# Altium footprint library ESC PCB Lib.PcbLib: 23 footprints (part 1 of 2)
Each footprint in its own frame and in the unit in brackets; x right, y up, seen from the top. Pads: shape width x height; smd on the part's side, far side on the other; paste and mask are expansions set on the pad; w line width, h text height; cw(c..) or ccw(c..) is an arc to the next point about the centre after c.
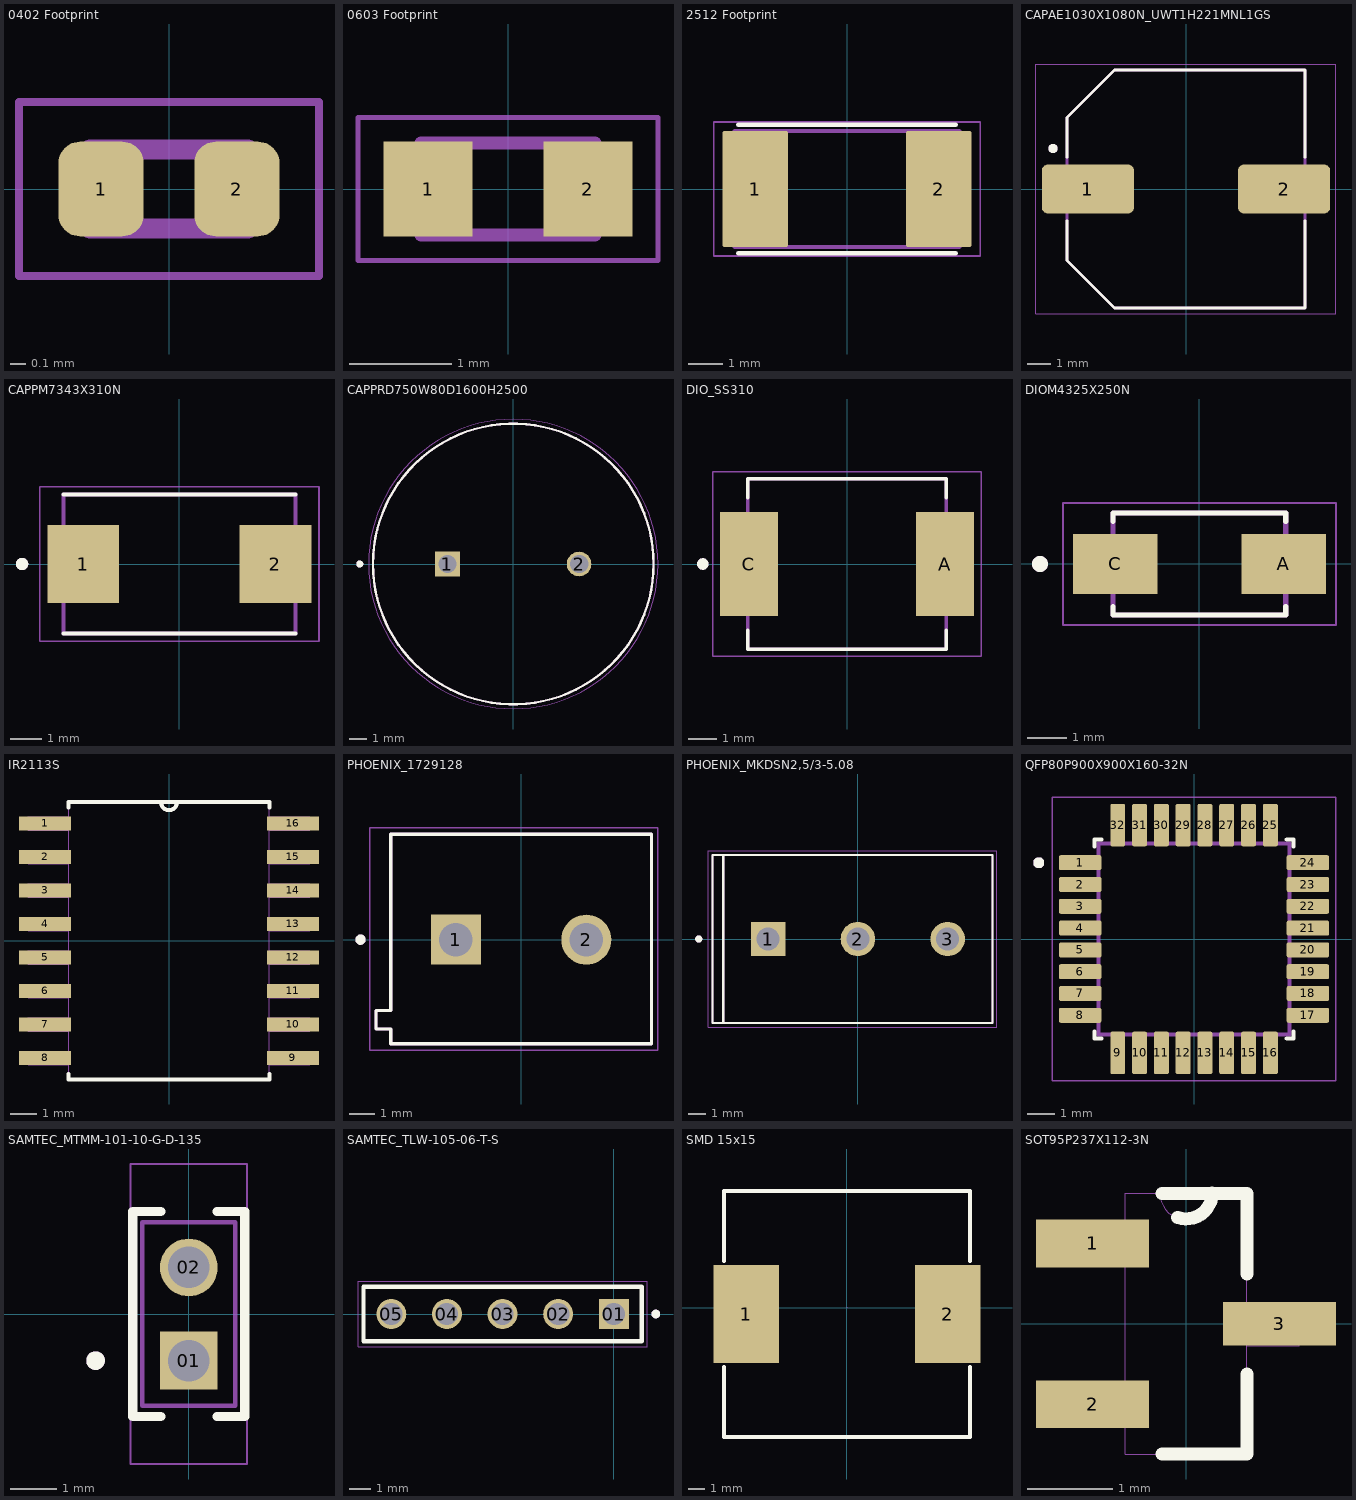
[diagram p0: the footprints below, top view; thin cyan lines are the x and y axes]

## 0402 Footprint [mm]
pads (2):
  rrect50% 0.54x0.6 smd: 1(-0.43,0) 2(0.43,0)
Mechanical 13:
  lines w0.127: -0.5,-0.25 0.5,-0.25 0.5,0.25 -0.5,0.25 -0.5,-0.25
Mechanical 15:
  lines w0.05: -0.95,-0.55 0.95,-0.55 0.95,0.55 -0.95,0.55 -0.95,-0.55

## 0603 Footprint [mm]
pads (2):
  rect 0.87x0.93 smd: 1(-0.78,0) 2(0.78,0)
Mechanical 13:
  lines w0.127: -0.85,-0.45 0.85,-0.45 0.85,0.45 -0.85,0.45 -0.85,-0.45
Mechanical 15:
  lines w0.05: -1.465,-0.7 1.465,-0.7 1.465,0.7 -1.465,0.7 -1.465,-0.7

## 2512 Footprint [mm]
pads (2):
  rrect7% 1.9x3.37 smd: 1(-2.66,0) 2(2.66,0)
Top Overlay:
  lines w0.127: -3.15,-1.865 3.15,-1.865 ; -3.15,1.865 3.15,1.865
Mechanical 13:
  lines w0.127: -3.25,-1.68 -3.25,1.68 3.25,1.68 3.25,-1.68 -3.25,-1.68
Mechanical 15:
  lines w0.05: -3.86,-1.94 -3.86,1.94 3.86,1.94 3.86,-1.94 -3.86,-1.94

## CAPAE1030X1080N_UWT1H221MNL1GS [mm]
pads (2):
  rrect25% 3.99x2.12 smd: 1(-4.24,0) 2(4.24,0)
Top Overlay:
  circle w0.2: c-5.75,1.75 r0.1
  lines w0.127: -5.15,-1.374 -5.15,-3.09 -3.09,-5.15 5.15,-5.15 5.15,-1.374 ; -5.15,1.374 -5.15,3.09 -3.09,5.15 5.15,5.15 5.15,1.374
Mechanical 13:
  circle w0.2: c-5.75,1.75 r0.1
  lines w0.127: -5.15,-3.09 -5.15,3.09 -3.09,5.15 5.15,5.15 5.15,-5.15 -3.09,-5.15 -5.15,-3.09
Mechanical 15:
  lines w0.05: -6.485,-5.4 -6.485,5.4 6.485,5.4 6.485,-5.4 -6.485,-5.4

## CAPPM7343X310N [mm]
pads (2):
  rect 2.31x2.52 smd: 1(-3.1,0) 2(3.1,0)
Top Overlay:
  circle w0.2: c-5.08,0 r0.1
  lines w0.127: -3.75,-2.25 3.75,-2.25 ; -3.75,2.25 3.75,2.25
Mechanical 13:
  circle w0.2: c-5.08,0 r0.1
  lines w0.127: -3.75,-2.25 -3.75,2.25 3.75,2.25 3.75,-2.25 -3.75,-2.25
Mechanical 15:
  lines w0.05: -4.505,-2.5 -4.505,2.5 4.505,2.5 4.505,-2.5 -4.505,-2.5

## CAPPRD750W80D1600H2500 [mm]
pads (2):
  rect 1.4x1.4 hole 1.05: 1(-3.75,0)
  round 1.4 hole 1.05: 2(3.75,0)
Top Overlay:
  circle w0.2: c-8.75,0 r0.1
  circle w0.127: c0,0 r8
Mechanical 13:
  circle w0.2: c-8.75,0 r0.1
  circle w0.127: c0,0 r8
Mechanical 15:
  circle w0.05: c0,0 r8.25
3D body "step_temp.STEP": height 25, standoff -17, extent -8,-7.997 8,7.997

## DIO_SS310 [mm]
height 2.65
pads (2):
  rect 2x3.6 smd: A(3.4,0) C(-3.4,0)
Top Overlay:
  circle w0.2: c-5,0 r0.1
  lines w0.127: -3.437,-2.3 -3.437,-2.95 3.437,-2.95 3.437,-2.3 ; -3.437,2.3 -3.437,2.95 3.437,2.95 3.437,2.3
Mechanical 13:
  circle w0.2: c-5,0 r0.1
  lines w0.127: -3.437,-2.95 3.437,-2.95 3.437,2.95 -3.437,2.95 -3.437,-2.95
Mechanical 15:
  lines w0.05: -4.65,-3.2 4.65,-3.2 4.65,3.2 -4.65,3.2 -4.65,-3.2
3D body "step_temp.STEP": height 2.65, standoff 0, extent -3.975,-2.95 3.975,2.95

## DIOM4325X250N [mm]
pads (2):
  rect 2.12x1.5 smd: A(2.115,0) C(-2.115,0)
Top Overlay:
  circle w0.2: c-4,0 r0.1
  lines w0.127: -2.165,-1.07 -2.165,-1.28 2.165,-1.28 2.165,-1.07 ; -2.165,1.07 -2.165,1.28 2.165,1.28 2.165,1.07
Mechanical 13:
  circle w0.2: c-4,0 r0.1
  lines w0.127: -2.165,-1.28 -2.165,1.28 2.165,1.28 2.165,-1.28 -2.165,-1.28
Mechanical 15:
  lines w0.05: -3.425,-1.53 -3.425,1.53 3.425,1.53 3.425,-1.53 -3.425,-1.53

## IR2113S [mil]
pads (16):
  rect 78x21 smd: 1(-185,175) 2(-185,125) 3(-185,75) 4(-185,25) 5(-185,-25) 6(-185,-75) 7(-185,-125) 8(-185,-175) 9(185,-175) 10(185,-125) 11(185,-75) 12(185,-25) 13(185,25) 14(185,75) 15(185,125) 16(185,175)
Top Overlay:
  lines w6: -150,-199 -150,-207 150,-207 150,-199 ; -150,199 -150,207 -12,207 ; 150,199 150,207 12,207 ; -12,207 ccw(c0,207) 12,207 ; -12,207 12,207
Mechanical 13:
  lines w0: -12,207 ccw(c0,207) 12,207 ; -12,207 -150,207 -150,-207 150,-207 150,207 12,207 ; -12,207 12,207 ; -210,-185 -150,-185 -150,-165 -210,-165 -210,-185 ; -210,-135 -150,-135 -150,-115 -210,-115 -210,-135 ; -210,-85 -150,-85 -150,-65 -210,-65 -210,-85 ; -210,-35 -150,-35 -150,-15 -210,-15 -210,-35 ; -210,15 -150,15 -150,35 -210,35 -210,15 ; -210,65 -150,65 -150,85 -210,85 -210,65 ; -210,115 -150,115 -150,135 -210,135 -210,115 ; -210,165 -150,165 -150,185 -210,185 -210,165 ; 150,-185 210,-185 210,-165 150,-165 150,-185 ; 150,-135 210,-135 210,-115 150,-115 150,-135 ; 150,-85 210,-85 210,-65 150,-65 150,-85 ; 150,-35 210,-35 210,-15 150,-15 150,-35 ; 150,15 210,15 210,35 150,35 150,15 ; 150,65 210,65 210,85 150,85 150,65 ; 150,115 210,115 210,135 150,135 150,115 ; 150,165 210,165 210,185 150,185 150,165

## PHOENIX_1729128 [mm]
height 10.15
pads (2):
  rect 1.95x1.95 / inner round 1.95 / far side rect 1.95x1.95 hole 1.3: 1(-2.54,0)
  round 1.95 hole 1.3: 2(2.54,0)
Top Overlay:
  circle w0.2: c-6.25,0 r0.1
  lines w0.127: -5.65,-3.477 -5.08,-3.477 -5.08,-4.05 5.08,-4.05 5.08,4.1 -5.08,4.1 -5.08,-2.763 -5.65,-2.763 -5.65,-3.477
Mechanical 13:
  circle w0.2: c-6.25,0 r0.1
  lines w0.127: -5.65,-3.477 -5.08,-3.477 -5.08,-4.05 5.08,-4.05 5.08,4.1 -5.08,4.1 -5.08,-2.763 -5.65,-2.763 -5.65,-3.477
Mechanical 15:
  lines w0.05: -5.9,-4.3 -5.9,4.35 5.33,4.35 5.33,-4.3 -5.9,-4.3

## PHOENIX_MKDSN2,5/3-5.08 [mm]
height 15
pads (3):
  rect 1.95x1.95 / inner round 1.95 / far side rect 1.95x1.95 hole 1.3: 1(-5.08,0)
  round 1.95 hole 1.3: 2(0,0) 3(5.08,0)
Top Overlay:
  circle w0.2: c-9,0 r0.1
  lines w0.127: -7.62,-4.75 -7.62,4.75 ; -7.62,-4.75 7.62,-4.75 7.62,4.75 -7.62,4.75 ; -7.62,-4.75 -8.22,-4.75 -8.22,4.75 -7.62,4.75
Mechanical 13:
  circle w0.2: c-9,0 r0.1
  lines w0.127: -7.62,-4.75 7.62,-4.75 7.62,4.75 -7.62,4.75 ; -7.62,-4.75 -7.62,4.75 ; -7.62,-4.75 -8.22,-4.75 -8.22,4.75 -7.62,4.75
Mechanical 15:
  lines w0.05: -8.47,-5 7.87,-5 7.87,5 -8.47,5 -8.47,-5
3D body "step_temp.STEP": height 15.15, standoff -3.7, extent -8.19,-4.75 7.62,4.75

## QFP80P900X900X160-32N [mm]
pads (32):
  rrect25% 1.56x0.55 smd: 1(-4.18,2.8) 2(-4.18,2) 3(-4.18,1.2) 4(-4.18,0.4) 5(-4.18,-0.4) 6(-4.18,-1.2) 7(-4.18,-2) 8(-4.18,-2.8) 17(4.18,-2.8) 18(4.18,-2) 19(4.18,-1.2) 20(4.18,-0.4) 21(4.18,0.4) 22(4.18,1.2) 23(4.18,2) 24(4.18,2.8)
  rrect25% 0.55x1.56 smd: 9(-2.8,-4.18) 10(-2,-4.18) 11(-1.2,-4.18) 12(-0.4,-4.18) 13(0.4,-4.18) 14(1.2,-4.18) 15(2,-4.18) 16(2.8,-4.18) 25(2.8,4.18) 26(2,4.18) 27(1.2,4.18) 28(0.4,4.18) 29(-0.4,4.18) 30(-1.2,4.18) 31(-2,4.18) 32(-2.8,4.18)
Top Overlay:
  circle w0.2: c-5.7,2.8 r0.1
  lines w0.152: -3.65,-3.4 -3.65,-3.65 -3.4,-3.65 ; -3.65,3.4 -3.65,3.65 -3.4,3.65 ; 3.4,-3.65 3.65,-3.65 3.65,-3.4 ; 3.4,3.65 3.65,3.65 3.65,3.4
Mechanical 13:
  circle w0.2: c-5.7,2.8 r0.1
  lines w0.152: -3.5,-3.5 3.5,-3.5 3.5,3.5 -3.5,3.5 -3.5,-3.5
Mechanical 15:
  lines w0.05: -5.21,-5.21 5.21,-5.21 5.21,5.21 -5.21,5.21 -5.21,-5.21

## SAMTEC_MTMM-101-10-G-D-135 [mm]
pads (2):
  rect 1.24x1.24 hole 0.89: 01(0,-1)
  round 1.24 hole 0.89: 02(0,1)
Top Overlay:
  circle w0.2: c-2,-1 r0.1
  lines w0.2: -0.605,-2.2 -1.2,-2.2 -1.2,2.2 -0.605,2.2 ; 0.605,-2.2 1.2,-2.2 1.2,2.2 0.605,2.2
Top Paste:
  region: 0.255,1.98 0.255,1.973 0.256,1.966 0.257,1.96 0.258,1.953 0.259,1.946 0.261,1.94 0.264,1.933 0.266,1.927 0.269,1.921 0.272,1.915 0.276,1.909 0.28,1.904 0.284,1.898 0.288,1.893 0.293,1.888 0.298,1.883 0.303,1.879 0.309,1.875 0.314,1.871 0.32,1.867 0.326,1.864 0.332,1.861 0.338,1.859 0.345,1.856 0.351,1.854 0.358,1.853 0.365,1.852 0.371,1.851 0.378,1.85 0.85,1.85 0.85,0.15 -0.85,0.15 -0.85,1.85 -0.378,1.85 -0.371,1.851 -0.365,1.852 -0.358,1.853 -0.351,1.854 -0.345,1.856 -0.338,1.859 -0.332,1.861 -0.326,1.864 -0.32,1.867 -0.314,1.871 -0.309,1.875 -0.303,1.879 -0.298,1.883 -0.293,1.888 -0.288,1.893 -0.284,1.898 -0.28,1.904 -0.276,1.909 -0.272,1.915 -0.269,1.921 -0.266,1.927 -0.264,1.933 -0.261,1.94 -0.259,1.946 -0.258,1.953 -0.257,1.96 -0.256,1.966 -0.255,1.973 -0.255,1.98 -0.255,2.97 0.255,2.97
  region: 0.85,-1.85 0.378,-1.85 0.371,-1.851 0.365,-1.852 0.358,-1.853 0.351,-1.854 0.345,-1.856 0.338,-1.859 0.332,-1.861 0.326,-1.864 0.32,-1.867 0.314,-1.871 0.309,-1.875 0.303,-1.879 0.298,-1.883 0.293,-1.888 0.288,-1.893 0.284,-1.898 0.28,-1.904 0.276,-1.909 0.272,-1.915 0.269,-1.921 0.266,-1.927 0.264,-1.933 0.261,-1.94 0.259,-1.946 0.258,-1.953 0.257,-1.96 0.256,-1.966 0.255,-1.973 0.255,-1.98 0.255,-2.97 -0.255,-2.97 -0.255,-1.98 -0.255,-1.973 -0.256,-1.966 -0.257,-1.96 -0.258,-1.953 -0.259,-1.946 -0.261,-1.94 -0.264,-1.933 -0.266,-1.927 -0.269,-1.921 -0.272,-1.915 -0.276,-1.909 -0.28,-1.904 -0.284,-1.898 -0.288,-1.893 -0.293,-1.888 -0.298,-1.883 -0.303,-1.879 -0.309,-1.875 -0.314,-1.871 -0.32,-1.867 -0.326,-1.864 -0.332,-1.861 -0.338,-1.859 -0.345,-1.856 -0.351,-1.854 -0.358,-1.853 -0.365,-1.852 -0.371,-1.851 -0.378,-1.85 -0.85,-1.85 -0.85,-0.15 0.85,-0.15
Mechanical 13:
  circle w0.2: c-2,-1 r0.1
  lines w0.1: -1,-1.97 1,-1.97 1,1.97 -1,1.97 -1,-1.97
Mechanical 15:
  lines w0.05: -1.25,-3.22 1.25,-3.22 1.25,3.22 -1.25,3.22 -1.25,-3.22

## SAMTEC_TLW-105-06-T-S [mm]
pads (5):
  rect 1.37x1.37 hole 1.02: 01(0,0)
  round 1.37 hole 1.02: 02(-2.54,0) 03(-5.08,0) 04(-7.62,0) 05(-10.16,0)
Top Overlay:
  circle w0.2: c1.92,0 r0.1
  lines w0.2: -11.43,-1.245 -11.43,1.245 1.27,1.245 1.27,-1.245 -11.43,-1.245
Mechanical 13:
  circle w0.2: c1.92,0 r0.1
  lines w0.1: -11.43,-1.245 -11.43,1.245 1.27,1.245 1.27,-1.245 -11.43,-1.245
Mechanical 15:
  lines w0.05: -11.68,-1.495 -11.68,1.495 1.52,1.495 1.52,-1.495 -11.68,-1.495

## SMD 15x15 [mm]
pads (2):
  rect 4x6 smd paste+0 mask+0.051: 1(-6.128,-0.374) 2(6.172,-0.374)
Top Overlay:
  lines w0.254: -7.479,7.127 7.522,7.127 7.522,2.857 ; -7.478,-3.605 -7.478,-7.874 7.522,-7.874 7.522,-3.605 ; -7.478,2.857 -7.478,7.126
Mechanical 15:
  lines w0.003: 0.022,0.035 0.022,0.036

## SOT95P237X112-3N [mil]
pads (3):
  rect 52x22 smd: 1(-43,37) 2(-43,-37)
  rect 52x20 smd: 3(43,0)
Top Overlay:
  lines w6: -11,-60 28,-60 28,-23 ; -11,60 12,60 28,60 28,23 ; -3.9,48.96 ccw(c0.15,60.1) 12,60.1
Mechanical 13:
  lines w0: -28,-47 -52,-47 -52,-28 -28,-28 ; -28,-47 -28,-28 ; -28,-47 -28,-60 28,-60 28,-10 ; -28,-28 -28,28 ; -28,28 -52,28 -52,47 -28,47 ; -28,28 -28,47 ; -28,47 -28,60 -12,60 ; -12,60 ccw(c0,60) 12,60 ; -12,60 12,60 ; 12,60 28,60 28,10 ; 28,-10 52,-10 52,10 28,10 ; 28,-10 28,10